# EAGLE library part RESISTOR-ARRAY-4R (library magzor)
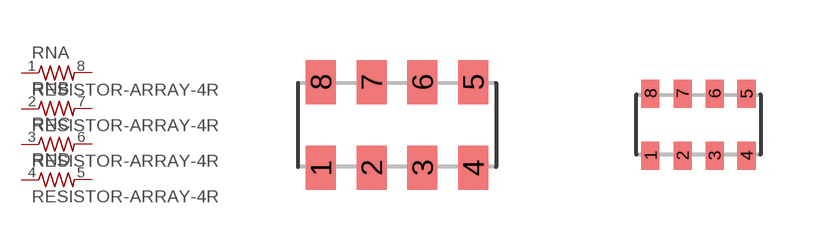
[diagram p9: symbol with the pads of RN-EXBS8V; footprints RN-EXBS8V, RN-EXBV8V]

Designator prefix RN; gates A=RESISTOR-US-PAD-VISIBLE B=RESISTOR-US-PAD-VISIBLE C=RESISTOR-US-PAD-VISIBLE D=RESISTOR-US-PAD-VISIBLE

## RESISTOR-ARRAY-4R-EXBS8V  [RN-EXBS8V]
1  A:1  pas
2  B:1  pas
3  C:1  pas
4  D:1  pas
5  D:2  pas
6  C:2  pas
7  B:2  pas
8  A:2  pas

## RESISTOR-ARRAY-4R-EXBV8V  [RN-EXBV8V]
Pads as for RN-EXBS8V

## Footprint RN-EXBS8V (pad centres in mm)
resistor array (4X R) Panasonic EXBS8V 5.08mm x 2.2mm
smd 0.75 x 1.1: 1 -1.905,-1.07; 2 -0.635,-1.07; 3 0.635,-1.07; 4 1.905,-1.07; 5 1.905,1.07; 6 0.635,1.07; 7 -0.635,1.07; 8 -1.905,1.07

## Footprint RN-EXBV8V (pad centres in mm)
resistor array (4X R) Panasonic EXBV8V 3.2mm x 1.6mm
smd 0.45 x 0.7: 1 -1.2,-0.775; 2 -0.4,-0.775; 3 0.4,-0.775; 4 1.2,-0.775; 5 1.2,0.775; 6 0.4,0.775; 7 -0.4,0.775; 8 -1.2,0.775